# Altium schematic symbol library Symbol.SchLib: 57 symbols
Pins are listed as number, name and electrical type; pins without a type are passive.

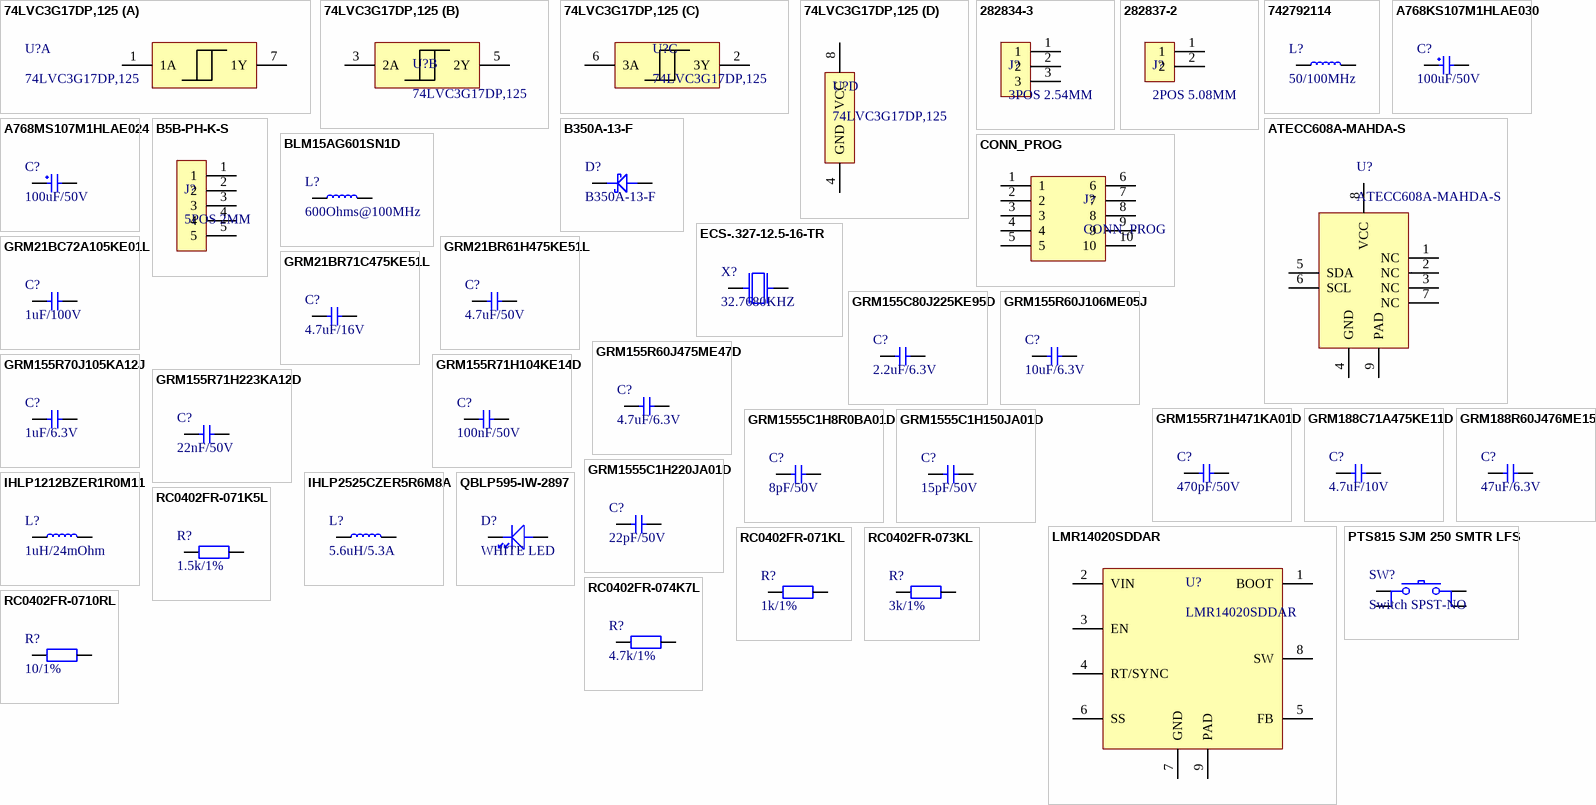
[diagram p0: symbols 74LVC3G17DP,125 to RC0402FR-0710RL]

## 74LVC3G17DP,125
designator U?
Buffer, Non-Inverting 3 Element 1 Bit per Element Push-Pull Output 8-TSSOP; ComponentLink1Description: Datasheet; ComponentLink1URL: https://assets.nexperia.com/documents/data-sheet/74LVC3G17.pdf; MPN: 74LVC3G17DP,125
footprint TSOP65P400X110-8N (TSOP, 8-Leads, Body 3.00x3.00mm, Pitch 0.65mm, IPC Medium Density)
part A pins: 1 1A, 7 1Y
part B pins: 3 2A, 5 2Y
part C pins: 2 3Y, 6 3A
part D pins: 4 GND, 8 VCC

## 282834-3
designator J?, comment 3POS 2.54MM
3 Position Wire to Board Terminal Block Horizontal with Board 0.100" (2.54mm) Through Hole; MPN: 282834-3; ComponentLink1Description: Datasheet; ComponentLink1URL: https://www.te.com/commerce/DocumentDelivery/DDEController?Action=srchrtrv&DocNm=282834&DocType=Customer+Drawing&DocLang=English
footprint 282834-3
pins: 1, 2, 3

## 282837-2
designator J?, comment 2POS 5.08MM
MPN: 282834-3; ComponentLink1Description: Datasheet; ComponentLink1URL: https://www.te.com/commerce/DocumentDelivery/DDEController?Action=srchrtrv&DocNm=282834&DocType=Customer+Drawing&DocLang=English
footprint 282837-2
pins: 1, 2

## 742792114
designator L?, comment 50/100MHz
50 Ohms 1 Signal Line Ferrite Bead 1206 (3216 Metric) 3A 25mOhm; MPN: 742792114; ComponentLink1Description: Datasheet; ComponentLink1URL: https://www.we-online.com/katalog/datasheet/742792114.pdf
footprint INDC3200X110-1206
pins: 1, 2

## A768KS107M1HLAE030
designator C?, comment 100uF/50V
100 µF 50 V Aluminum - Polymer Capacitors Radial, Can - SMD 30mOhm 2000 Hrs @ 125°C; MPN: A768KS107M1HLAE030; ComponentLink1Description: Datasheet; ComponentLink1URL: https://connect.kemet.com:7667/gateway/IntelliData-ComponentDocumentation/1.0/download/datasheet/A768KS107M1HLAE030
footprint A768KS107M1HLAE030
pins: 1, 2

## A768MS107M1HLAE024
designator C?, comment 100uF/50V
100 µF 50 V Aluminum - Polymer Capacitors Radial, Can - SMD 24mOhm 2000 Hrs @ 125°C; MPN: A768MS107M1HLAE024; ComponentLink1Description: Datasheet; ComponentLink1URL: https://connect.kemet.com:7667/gateway/IntelliData-ComponentDocumentation/1.0/download/datasheet/A768MS107M1HLAE024
footprint A768MS107M1HLAE024
pins: 1, 2

## ATECC608A-MAHDA-S
designator U?
Authentication Chip 8-UDFN (2x3); MPN: ATECC608A-MAHDA-S; ComponentLink1Description: Datasheet; ComponentLink1URL: https://ww1.microchip.com/downloads/en/DeviceDoc/ATECC608A-CryptoAuthentication-Device-Summary-Data-Sheet-DS40001977B.pdf
footprint SON50P200X60_HS-9N (SON, 8-Leads, Body 3.00x2.00mm, Pitch 0.50mm, Thermal Pad 1.50x0.68mm, IPC Medium Density)
pins: 1 NC, 2 NC, 3 NC, 4 GND, 5 SDA, 6 SCL, 7 NC, 8 VCC, 9 PAD

## B5B-PH-K-S
designator J?, comment 5POS 2MM
Connector Header Through Hole 5 position 0.079" (2.00mm); MPN: B5B-PH-K-S; ComponentLink1Description: Datasheet; ComponentLink1URL: https://www.jst-mfg.com/product/pdf/eng/ePH.pdf
footprint B5B-PH-K-S
pins: 1, 2, 3, 4, 5

## B350A-13-F
designator D?
Diode 50 V 3A Surface Mount SMA; ComponentLink1Description: Datasheet; ComponentLink1URL: https://www.diodes.com/assets/Datasheets/ds30891.pdf; MPN: B350A-13-F
footprint SMA
pins: 1, 2

## BLM15AG601SN1D
designator L?, comment 600Ohms@100MHz
600 Ohms @ 100 MHz 1 Ferrite Bead 0402 (1005 Metric) 300mA 520mOhm; MPN: BLM15AG601SN1D; ComponentLink1Description: Datasheet; ComponentLink1URL: https://www.murata.com/en-us/products/productdata/8796740059166/ENFA0018.pdf
footprint INDC1005X06M-0402 (Chip Inductor, 2-Leads, Body 1.00x0.50mm, IPC Low Density)
pins: 1, 2

## CONN_PROG
designator J?
ComponentLink1Description: Datasheet; MPN: CONN_PROG
footprint CONN_PROG
pins: 1, 2, 3, 4, 5, 6, 7, 8, 9, 10

## ECS-.327-12.5-16-TR
designator X?, comment 32.7680KHZ
32.768 kHz ±20ppm Crystal 12.5pF 90 kOhms 2-SMD, No Lead; MPN: ECS-.327-12.5-16-TR; ComponentLink1Description: Datasheet; ComponentLink1URL: https://ecsxtal.com/store/pdf/ECX-16.pdf
footprint 2-SMD
pins: 1, 2

## GRM21BC72A105KE01L
designator C?, comment 1uF/100V
1 µF ±10% 100V Ceramic Capacitor X7S 0805 (2012 Metric); MPN: GRM21BC72A105KE01L; ComponentLink1Description: Datasheet; ComponentLink1URL: https://search.murata.co.jp/Ceramy/image/img/A01X/G101/ENG/GRM21BC72A105KE01-01.pdf
footprint CAPC2012X14M (Chip Capacitor, 2-Leads, Body 2.00x1.25mm, IPC Low Density)
pins: 1, 2

## GRM21BR61H475KE51L
designator C?, comment 4.7uF/50V
4.7 µF ±10% 50V Ceramic Capacitor X5R 0805 (2012 Metric); MPN: GRM21BR61H475KE51L; ComponentLink1Description: Datasheet; ComponentLink1URL: https://search.murata.co.jp/Ceramy/image/img/A01X/G101/ENG/GRM21BC72A105KE01-01.pdf
footprint CAPC2012X14M (Chip Capacitor, 2-Leads, Body 2.00x1.25mm, IPC Low Density)
pins: 1, 2

## GRM21BR71C475KE51L
designator C?, comment 4.7uF/16V
4.7 µF ±10% 16V Ceramic Capacitor X7R 0805 (2012 Metric); MPN: GRM21BR71C475KE51L; ComponentLink1Description: Datasheet; ComponentLink1URL: https://search.murata.co.jp/Ceramy/image/img/A01X/G101/ENG/GRM21BR71C475KE51-01.pdf
footprint CAPC2012X14M (Chip Capacitor, 2-Leads, Body 2.00x1.25mm, IPC Low Density)
pins: 1, 2

## GRM155C80J225KE95D
designator C?, comment 2.2uF/6.3V
2.2 µF ±10% 6.3V Ceramic Capacitor X6S 0402 (1005 Metric); MPN: GRM155C80J225KE95D; ComponentLink1Description: Datasheet; ComponentLink1URL: https://search.murata.co.jp/Ceramy/image/img/A01X/G101/ENG/GRM155R60J475ME47-01.pdf
footprint CAPC1005X06M-0402 (Chip Capacitor, 2-Leads, Body 1.00x0.50mm, IPC Low Density)
pins: 1, 2

## GRM155R60J106ME05J
designator C?, comment 10uF/6.3V
10 µF ±20% 6.3V Ceramic Capacitor X5R 0402 (1005 Metric); MPN: GRM155R60J106ME05J; ComponentLink1Description: Datasheet; ComponentLink1URL: https://search.murata.co.jp/Ceramy/image/img/A01X/G101/ENG/GRM155R60J106ME05-01A.pdf
footprint CAPC1005X06M-0402 (Chip Capacitor, 2-Leads, Body 1.00x0.50mm, IPC Low Density)
pins: 1, 2

## GRM155R60J475ME47D
designator C?, comment 4.7uF/6.3V
4.7 µF ±20% 6.3V Ceramic Capacitor X5R 0402 (1005 Metric); MPN: GRM155R60J475ME47D; ComponentLink1Description: Datasheet; ComponentLink1URL: https://search.murata.co.jp/Ceramy/image/img/A01X/G101/ENG/GRM155R60J475ME47-01.pdf
footprint CAPC1005X06M-0402 (Chip Capacitor, 2-Leads, Body 1.00x0.50mm, IPC Low Density)
pins: 1, 2

## GRM155R70J105KA12J
designator C?, comment 1uF/6.3V
1 µF ±10% 6.3V Ceramic Capacitor X7R 0402 (1005 Metric); MPN: GRM155R70J105KA12J; ComponentLink1Description: Datasheet; ComponentLink1URL: https://search.murata.co.jp/Ceramy/image/img/A01X/G101/ENG/GRM155R60J475ME47-01.pdf
footprint CAPC1005X06M-0402 (Chip Capacitor, 2-Leads, Body 1.00x0.50mm, IPC Low Density)
pins: 1, 2

## GRM155R71H104KE14D
designator C?, comment 100nF/50V
0.1 µF ±10% 50V Ceramic Capacitor X7R 0402 (1005 Metric); MPN: GRM155R71H104KE14D; ComponentLink1Description: Datasheet; ComponentLink1URL: https://search.murata.co.jp/Ceramy/image/img/A01X/G101/ENG/GRM155R60J475ME47-01.pdf
footprint CAPC1005X06M-0402 (Chip Capacitor, 2-Leads, Body 1.00x0.50mm, IPC Low Density)
pins: 1, 2

## GRM155R71H223KA12D
designator C?, comment 22nF/50V
0.022 µF ±10% 50V Ceramic Capacitor X7R 0402 (1005 Metric); MPN: GRM155R71H223KA12D; ComponentLink1Description: Datasheet; ComponentLink1URL: https://search.murata.co.jp/Ceramy/image/img/A01X/G101/ENG/GRM155R60J475ME47-01.pdf
footprint CAPC1005X06M-0402 (Chip Capacitor, 2-Leads, Body 1.00x0.50mm, IPC Low Density)
pins: 1, 2

## GRM155R71H471KA01D
designator C?, comment 470pF/50V
470 pF ±10% 50V Ceramic Capacitor X7R 0402 (1005 Metric); MPN: GRM155R71H471KA01D; ComponentLink1Description: Datasheet; ComponentLink1URL: https://search.murata.co.jp/Ceramy/image/img/A01X/G101/ENG/GRM155R60J475ME47-01.pdf
footprint CAPC1005X06M-0402 (Chip Capacitor, 2-Leads, Body 1.00x0.50mm, IPC Low Density)
pins: 1, 2

## GRM188C71A475KE11D
designator C?, comment 4.7uF/10V
4.7 µF ±10% 10V Ceramic Capacitor X7S 0603 (1608 Metric); MPN: GRM188C71A475KE11D; ComponentLink1Description: Datasheet; ComponentLink1URL: https://search.murata.co.jp/Ceramy/image/img/A01X/G101/ENG/GRM188R60J476ME15-01.pdf
footprint CAPC1608X10M-0603 (Chip Capacitor, 2-Leads, Body 1.60x0.80mm, IPC Low Density)
pins: 1, 2

## GRM188R60J476ME15D
designator C?, comment 47uF/6.3V
47 µF ±20% 6.3V Ceramic Capacitor X5R 0603 (1608 Metric); MPN: GRM188R60J476ME15D; ComponentLink1Description: Datasheet; ComponentLink1URL: https://search.murata.co.jp/Ceramy/image/img/A01X/G101/ENG/GRM188R60J476ME15-01.pdf
footprint CAPC1608X10M-0603 (Chip Capacitor, 2-Leads, Body 1.60x0.80mm, IPC Low Density)
pins: 1, 2

## GRM1555C1H8R0BA01D
designator C?, comment 8pF/50V
8 pF ±0.1pF 50V Ceramic Capacitor C0G, NP0 0402 (1005 Metric); MPN: GRM1555C1H8R0BA01D; ComponentLink1Description: Datasheet; ComponentLink1URL: https://search.murata.co.jp/Ceramy/image/img/A01X/G101/ENG/GRM155R60J475ME47-01.pdf
footprint CAPC1005X06M-0402 (Chip Capacitor, 2-Leads, Body 1.00x0.50mm, IPC Low Density)
pins: 1, 2

## GRM1555C1H150JA01D
designator C?, comment 15pF/50V
15 pF ±5% 50V Ceramic Capacitor C0G, NP0 0402 (1005 Metric); MPN: GRM1555C1H150JA01D; ComponentLink1Description: Datasheet; ComponentLink1URL: https://search.murata.co.jp/Ceramy/image/img/A01X/G101/ENG/GRM155R60J475ME47-01.pdf
footprint CAPC1005X06M-0402 (Chip Capacitor, 2-Leads, Body 1.00x0.50mm, IPC Low Density)
pins: 1, 2

## GRM1555C1H220JA01D
designator C?, comment 22pF/50V
22 pF ±5% 50V Ceramic Capacitor C0G, NP0 0402 (1005 Metric); MPN: GRM1555C1H220JA01D; ComponentLink1Description: Datasheet; ComponentLink1URL: https://search.murata.co.jp/Ceramy/image/img/A01X/G101/ENG/GRM155R60J475ME47-01.pdf
footprint CAPC1005X06M-0402 (Chip Capacitor, 2-Leads, Body 1.00x0.50mm, IPC Low Density)
pins: 1, 2

## IHLP1212BZER1R0M11
designator L?, comment 1uH/24mOhm
1 µH Shielded Molded Inductor 5 A 24mOhm Max Nonstandard; MPN: IHLP1212BZER1R0M11; ComponentLink1Description: Datasheet; ComponentLink1URL: https://www.vishay.com/docs/34289/lp12bz11.pdf
footprint INDP3030X20M (Precision Wire Wound Inductor, 2-Leads, Body 3.00x3.00mm, IPC Low Density)
pins: 1, 2

## IHLP2525CZER5R6M8A
designator L?, comment 5.6uH/5.3A
5.6 µH Shielded Molded Inductor 5.3 A 45.6mOhm Max Nonstandard; MPN: IHLP2525CZER5R6M8A; ComponentLink1Description: Datasheet; ComponentLink1URL: https://www.vishay.com/docs/34362/lp25cz8a.pdf
footprint IHLP2525CZER5R6M8A
pins: 1, 2

## LMR14020SDDAR
designator U?
Buck Switching Regulator IC Positive Adjustable 0.8V 1 Output 2A 8-PowerSOIC (0.154", 3.90mm Width); MPN: LMR14020SDDAR; ComponentLink1Description: Datasheet; ComponentLink1URL: https://www.ti.com/general/docs/suppproductinfo.tsp?distId=10&gotoUrl=http%253A%252F%252Fwww.ti.com%252Flit%252Fgpn%252Flmr14020
footprint SOIC127P600X170_HS-9N (SOIC, 8-Leads, Body 4.90x3.90mm, Pitch 1.27mm, Thermal Pad 3.40x2.71mm, IPC Medium Density)
pins: 1 BOOT, 2 VIN, 3 EN, 4 RT/SYNC, 5 FB, 6 SS, 7 GND, 8 SW, 9 PAD

## PTS815 SJM 250 SMTR LFS
designator SW?, comment Switch SPST-NO
Tactile Switch SPST-NO Top Actuated Surface Mount; MPN: PTS815 SJM 250 SMTR LFS; ComponentLink1Description: Datasheet; ComponentLink1URL: https://www.ckswitches.com/media/2728/pts815.pdf
footprint PTS815 SJM 250 SMTR LFS
pins: 1, 2, 3, 4

## QBLP595-IW-2897
designator D?, comment WHITE LED
White LED Indication - Discrete 3.1V 0402 (1005 Metric); MPN: QBLP595-IW-2897; ComponentLink1Description: Datasheet; ComponentLink1URL: https://www.qt-brightek.com/datasheet/QBLP595-IW-2897.pdf
footprint LED-0402
pins: 1, 2

## RC0402FR-071K5L
designator R?, comment 1.5k/1%
1.5 kOhms ±1% 0.063W, 1/16W Chip Resistor 0402 (1005 Metric) Moisture Resistant Thick Film; MPN: RC0402FR-071K5L; ComponentLink1Description: Datasheet; ComponentLink1URL: https://www.yageo.com/upload/media/product/productsearch/datasheet/rchip/PYu-RC_Group_51_RoHS_L_12.pdf
footprint RESC1005X04M-0402 (Chip Resistor, 2-Leads, Body 1.00x0.50mm, IPC Low Density)
pins: 1, 2

## RC0402FR-071KL
designator R?, comment 1k/1%
1 kOhms ±1% 0.063W, 1/16W Chip Resistor 0402 (1005 Metric) Moisture Resistant Thick Film; MPN: RC0402FR-071KL; ComponentLink1Description: Datasheet; ComponentLink1URL: https://www.yageo.com/upload/media/product/productsearch/datasheet/rchip/PYu-RC_Group_51_RoHS_L_12.pdf
footprint RESC1005X04M-0402 (Chip Resistor, 2-Leads, Body 1.00x0.50mm, IPC Low Density)
pins: 1, 2

## RC0402FR-073KL
designator R?, comment 3k/1%
3 kOhms ±1% 0.063W, 1/16W Chip Resistor 0402 (1005 Metric) Moisture Resistant Thick Film; MPN: RC0402FR-073KL; ComponentLink1Description: Datasheet; ComponentLink1URL: https://www.yageo.com/upload/media/product/productsearch/datasheet/rchip/PYu-RC_Group_51_RoHS_L_12.pdf
footprint RESC1005X04M-0402 (Chip Resistor, 2-Leads, Body 1.00x0.50mm, IPC Low Density)
pins: 1, 2

## RC0402FR-074K7L
designator R?, comment 4.7k/1%
4.7 kOhms ±1% 0.063W, 1/16W Chip Resistor 0402 (1005 Metric) Moisture Resistant Thick Film; MPN: RC0402FR-074K7L; ComponentLink1Description: Datasheet; ComponentLink1URL: https://www.yageo.com/upload/media/product/productsearch/datasheet/rchip/PYu-RC_Group_51_RoHS_L_12.pdf
footprint RESC1005X04M-0402 (Chip Resistor, 2-Leads, Body 1.00x0.50mm, IPC Low Density)
pins: 1, 2

## RC0402FR-0710RL
designator R?, comment 10/1%
10 Ohms ±1% 0.063W, 1/16W Chip Resistor 0402 (1005 Metric) Moisture Resistant Thick Film; MPN: RC0402FR-0710RL; ComponentLink1Description: Datasheet; ComponentLink1URL: https://www.yageo.com/upload/media/product/productsearch/datasheet/rchip/PYu-RC_Group_51_RoHS_L_12.pdf
footprint RESC1005X04M-0402 (Chip Resistor, 2-Leads, Body 1.00x0.50mm, IPC Low Density)
pins: 1, 2

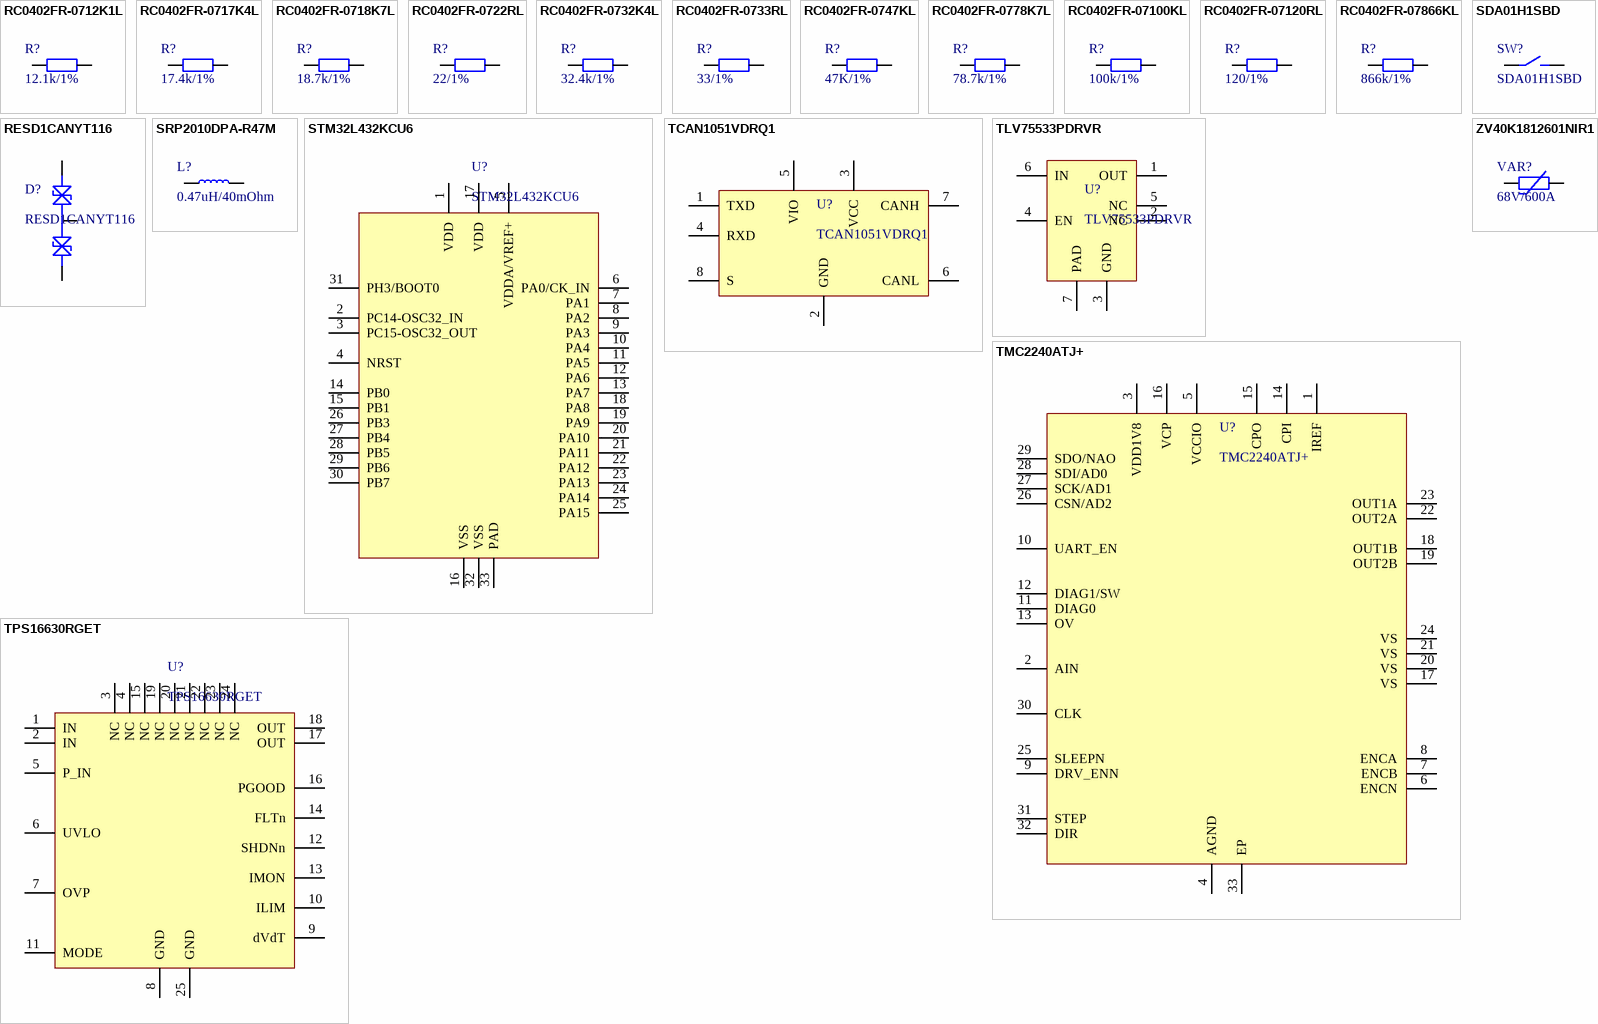
[diagram p1: symbols RC0402FR-0712K1L to ZV40K1812601NIR1]

## RC0402FR-0712K1L
designator R?, comment 12.1k/1%
12.1 kOhms ±1% 0.063W, 1/16W Chip Resistor 0402 (1005 Metric) Moisture Resistant Thick Film; MPN: RC0402FR-0712K1L; ComponentLink1Description: Datasheet; ComponentLink1URL: https://www.yageo.com/upload/media/product/productsearch/datasheet/rchip/PYu-RC_Group_51_RoHS_L_12.pdf
footprint RESC1005X04M-0402 (Chip Resistor, 2-Leads, Body 1.00x0.50mm, IPC Low Density)
pins: 1, 2

## RC0402FR-0717K4L
designator R?, comment 17.4k/1%
17.4 kOhms ±1% 0.063W, 1/16W Chip Resistor 0402 (1005 Metric) Moisture Resistant Thick Film; MPN: RC0402FR-0717K4L; ComponentLink1Description: Datasheet; ComponentLink1URL: https://www.yageo.com/upload/media/product/productsearch/datasheet/rchip/PYu-RC_Group_51_RoHS_L_12.pdf
footprint RESC1005X04M-0402 (Chip Resistor, 2-Leads, Body 1.00x0.50mm, IPC Low Density)
pins: 1, 2

## RC0402FR-0718K7L
designator R?, comment 18.7k/1%
18.7 kOhms ±1% 0.063W, 1/16W Chip Resistor 0402 (1005 Metric) Moisture Resistant Thick Film; MPN: RC0402FR-0718K7L; ComponentLink1Description: Datasheet; ComponentLink1URL: https://www.yageo.com/upload/media/product/productsearch/datasheet/rchip/PYu-RC_Group_51_RoHS_L_12.pdf
footprint RESC1005X04M-0402 (Chip Resistor, 2-Leads, Body 1.00x0.50mm, IPC Low Density)
pins: 1, 2

## RC0402FR-0722RL
designator R?, comment 22/1%
22 Ohms ±1% 0.063W, 1/16W Chip Resistor 0402 (1005 Metric) Moisture Resistant Thick Film; MPN: RC0402FR-0722RL; ComponentLink1Description: Datasheet; ComponentLink1URL: https://www.yageo.com/upload/media/product/productsearch/datasheet/rchip/PYu-RC_Group_51_RoHS_L_12.pdf
footprint RESC1005X04M-0402 (Chip Resistor, 2-Leads, Body 1.00x0.50mm, IPC Low Density)
pins: 1, 2

## RC0402FR-0732K4L
designator R?, comment 32.4k/1%
32.4 kOhms ±1% 0.063W, 1/16W Chip Resistor 0402 (1005 Metric) Moisture Resistant Thick Film; MPN: RC0402FR-0718K7L; ComponentLink1Description: Datasheet; ComponentLink1URL: https://www.yageo.com/upload/media/product/productsearch/datasheet/rchip/PYu-RC_Group_51_RoHS_L_12.pdf
footprint RESC1005X04M-0402 (Chip Resistor, 2-Leads, Body 1.00x0.50mm, IPC Low Density)
pins: 1, 2

## RC0402FR-0733RL
designator R?, comment 33/1%
33 Ohms ±1% 0.063W, 1/16W Chip Resistor 0402 (1005 Metric) Moisture Resistant Thick Film; MPN: RC0402FR-0733RL; ComponentLink1Description: Datasheet; ComponentLink1URL: https://www.yageo.com/upload/media/product/productsearch/datasheet/rchip/PYu-RC_Group_51_RoHS_L_12.pdf
footprint RESC1005X04M-0402 (Chip Resistor, 2-Leads, Body 1.00x0.50mm, IPC Low Density)
pins: 1, 2

## RC0402FR-0747KL
designator R?, comment 47K/1%
47 kOhms ±1% 0.063W, 1/16W Chip Resistor 0402 (1005 Metric) Moisture Resistant Thick Film; MPN: RC0402FR-0747KL; ComponentLink1Description: Datasheet; ComponentLink1URL: https://www.yageo.com/upload/media/product/productsearch/datasheet/rchip/PYu-RC_Group_51_RoHS_L_12.pdf
footprint RESC1005X04M-0402 (Chip Resistor, 2-Leads, Body 1.00x0.50mm, IPC Low Density)
pins: 1, 2

## RC0402FR-0778K7L
designator R?, comment 78.7k/1%
78.7 kOhms ±1% 0.063W, 1/16W Chip Resistor 0402 (1005 Metric) Moisture Resistant Thick Film; MPN: RC0402FR-0778K7L; ComponentLink1Description: Datasheet; ComponentLink1URL: https://www.yageo.com/upload/media/product/productsearch/datasheet/rchip/PYu-RC_Group_51_RoHS_L_12.pdf
footprint RESC1005X04M-0402 (Chip Resistor, 2-Leads, Body 1.00x0.50mm, IPC Low Density)
pins: 1, 2

## RC0402FR-07100KL
designator R?, comment 100k/1%
100 kOhms ±1% 0.063W, 1/16W Chip Resistor 0402 (1005 Metric) Moisture Resistant Thick Film; MPN: RC0402FR-07100KL; ComponentLink1Description: Datasheet; ComponentLink1URL: https://www.yageo.com/upload/media/product/productsearch/datasheet/rchip/PYu-RC_Group_51_RoHS_L_12.pdf
footprint RESC1005X04M-0402 (Chip Resistor, 2-Leads, Body 1.00x0.50mm, IPC Low Density)
pins: 1, 2

## RC0402FR-07120RL
designator R?, comment 120/1%
120 Ohms ±1% 0.063W, 1/16W Chip Resistor 0402 (1005 Metric) Moisture Resistant Thick Film; MPN: RC0402FR-07120RL; ComponentLink1Description: Datasheet; ComponentLink1URL: https://www.yageo.com/upload/media/product/productsearch/datasheet/rchip/PYu-RC_Group_51_RoHS_L_12.pdf
footprint RESC1005X04M-0402 (Chip Resistor, 2-Leads, Body 1.00x0.50mm, IPC Low Density)
pins: 1, 2

## RC0402FR-07866KL
designator R?, comment 866k/1%
866 kOhms ±1% 0.063W, 1/16W Chip Resistor 0402 (1005 Metric) Moisture Resistant Thick Film; MPN: RC0402FR-07866KL; ComponentLink1Description: Datasheet; ComponentLink1URL: https://www.yageo.com/upload/media/product/productsearch/datasheet/rchip/PYu-RC_Group_51_RoHS_L_12.pdf
footprint RESC1005X04M-0402 (Chip Resistor, 2-Leads, Body 1.00x0.50mm, IPC Low Density)
pins: 1, 2

## RESD1CANYT116
designator D?
44V Clamp 8A (8/20µs) Ipp Tvs Diode Surface Mount SOT-23; ComponentLink1Description: Datasheet; ComponentLink1URL: https://fscdn.rohm.com/en/products/databook/datasheet/discrete/diode/zener/resd1canyt116-e.pdf; MPN: RESD1CANYT116
footprint SOT100P240X115-3N (SOT23, 3-Leads, Body 2.90x2.40mm, Pitch 1.00mm, IPC Medium Density)
pins: 1, 2, 3

## SDA01H1SBD
designator SW?
Dip Switch SPST 1 Position Surface Mount Slide (Standard) Actuator 25mA 24VDC; ComponentLink1Description: Datasheet; ComponentLink1URL: https://www.ckswitches.com/media/1327/sda.pdf; MPN: SDA01H1SBD
footprint SDA01H1SB
pins: 1, 2

## SRP2010DPA-R47M
designator L?, comment 0.47uH/40mOhm
470 nH Shielded Inductor 3.6 A 40mOhm Max 0806 (2016 Metric); MPN: SRP2010DPA-R47M; ComponentLink1Description: Datasheet; ComponentLink1URL: https://media.digikey.com/pdf/Data%20Sheets/Bourns%20PDFs/SRP2010DPA_Series_DS.pdf
footprint INDC200x160-2016
pins: 1, 2

## STM32L432KCU6
designator U?
ARM® Cortex®-M4 STM32L4 Microcontroller IC 32-Bit Single-Core 80MHz 256KB (256K x 8) FLASH 32-UFQFPN (5x5); ComponentLink1Description: Datasheet; ComponentLink1URL: https://www.st.com/content/ccc/resource/technical/document/datasheet/24/01/9f/59/f0/83/47/fc/DM00257205.pdf/files/DM00257205.pdf/jcr:content/translations/en.DM00257205.pdf; MPN: STM32L432KCU6
footprint PQFN50P500X500X60_HS-33N (PQFN, 32-Leads, Body 5.00x5.00mm, Pitch 0.50mm, Thermal Pad 3.50x3.50mm, IPC Medium Density)
pins: 1 VDD, 2 PC14-OSC32_IN, 3 PC15-OSC32_OUT, 4 NRST, 5 VDDA/VREF+, 6 PA0/CK_IN, 7 PA1, 8 PA2, 9 PA3, 10 PA4, 11 PA5, 12 PA6, 13 PA7, 14 PB0, 15 PB1, 16 VSS, 17 VDD, 18 PA8, 19 PA9, 20 PA10, 21 PA11, 22 PA12, 23 PA13, 24 PA14, 25 PA15, 26 PB3, 27 PB4, 28 PB5, 29 PB6, 30 PB7, 31 PH3/BOOT0, 32 VSS, 33 PAD

## TCAN1051VDRQ1
designator U?
1/1 Transceiver Half CANbus 8-SOIC; ComponentLink1Description: Datasheet; ComponentLink1URL: https://www.ti.com/general/docs/suppproductinfo.tsp?distId=10&gotoUrl=https%3A%2F%2Fwww.ti.com%2Flit%2Fgpn%2Ftcan1051-q1; MPN: TCAN1051VDRQ1
footprint SOIC127P600X175-8N (SOIC, 8-Leads, Body 4.91x3.90mm, Pitch 1.27mm, IPC Medium Density)
pins: 1 TXD, 2 GND, 3 VCC, 4 RXD, 5 VIO, 6 CANL, 7 CANH, 8 S

## TLV75533PDRVR
designator U?
Linear Voltage Regulator IC Positive Fixed 1 Output 500mA 6-WSON (2x2); ComponentLink1Description: Datasheet; ComponentLink1URL: https://www.ti.com/general/docs/suppproductinfo.tsp?distId=10&gotoUrl=https%3A%2F%2Fwww.ti.com%2Flit%2Fgpn%2Ftlv755p; MPN: TLV75533PDRVR
footprint SON65P200X80_HS-7N (SON, 6-Leads, Body 2.00x2.00mm, Pitch 0.65mm, Thermal Pad 1.50x0.68mm, IPC Medium Density)
pins: 1 OUT, 2 NC, 3 GND, 4 EN, 5 NC, 6 IN, 7 PAD

## TMC2240ATJ+
designator U?
Bipolar Motor Driver Power MOSFET SPI, UART 32-TQFN-EP (5x5); MPN: TMC2240ATJ+; ComponentLink1Description: Datasheet; ComponentLink1URL: http://mm.digikey.com/Volume0/opasdata/d220001/medias/docus/5344/TMC2240.pdf
footprint TQFN32-5mmx5mm
pins: 1 IREF, 2 AIN, 3 VDD1V8 (power), 4 AGND (power), 5 VCCIO (power), 6 ENCN, 7 ENCB, 8 ENCA, 9 DRV_ENN, 10 UART_EN, 11 DIAG0, 12 DIAG1/SW, 13 OV, 14 CPI, 15 CPO, 16 VCP (power), 17 VS (power), 18 OUT1B, 19 OUT2B, 20 VS (power), 21 VS (power), 22 OUT2A, 23 OUT1A, 24 VS (power), 25 SLEEPN, 26 CSN/AD2, 27 SCK/AD1, 28 SDI/AD0, 29 SDO/NAO, 30 CLK, 31 STEP, 32 DIR, 33 EP

## TPS16630RGET
designator U?
Electronic Fuse Regulator 6A 24-VQFN (4x4); ComponentLink1Description: Datasheet; ComponentLink1URL: https://www.ti.com/general/docs/suppproductinfo.tsp?distId=10&gotoUrl=https%3A%2F%2Fwww.ti.com%2Flit%2Fgpn%2Ftps1663; MPN: TPS16630RGET
footprint PQFN50P400X400X100_HS-25N (PQFN, 24-Leads, Body 4.00x4.00mm, Pitch 0.50mm, Thermal Pad 2.70x2.70mm, IPC Medium Density)
pins: 1 IN (power), 2 IN (power), 3 NC, 4 NC, 5 P_IN, 6 UVLO, 7 OVP, 8 GND (power), 9 dVdT, 10 ILIM, 11 MODE, 12 SHDNn, 13 IMON, 14 FLTn, 15 NC, 16 PGOOD, 17 OUT (power), 18 OUT (power), 19 NC, 20 NC, 21 NC, 22 NC, 23 NC, 24 NC, 25 GND

## ZV40K1812601NIR1
designator VAR?, comment 68V/600A
68 V 600 A Varistor 1 Circuit Surface Mount, MLCV 1812 (4532 Metric); MPN: ZV40K1812601NIR1; ComponentLink1Description: Datasheet; ComponentLink1URL: https://www.bourns.com/docs/Product-Datasheets/ZV_series.pdf
footprint VARA4732X16N (VARISTOR, 2-Leads, Body 4.70x3.20mm, IPC Medium Density)
pins: 1, 2